# Altium footprint library Diode.PcbLib: 31 footprints (part 2 of 2)
Each footprint in its own frame and in the unit in brackets; x right, y up, seen from the top. Pads: shape width x height; smd on the part's side, far side on the other; paste and mask are expansions set on the pad; w line width, h text height; cw(c..) or ccw(c..) is an arc to the next point about the centre after c.
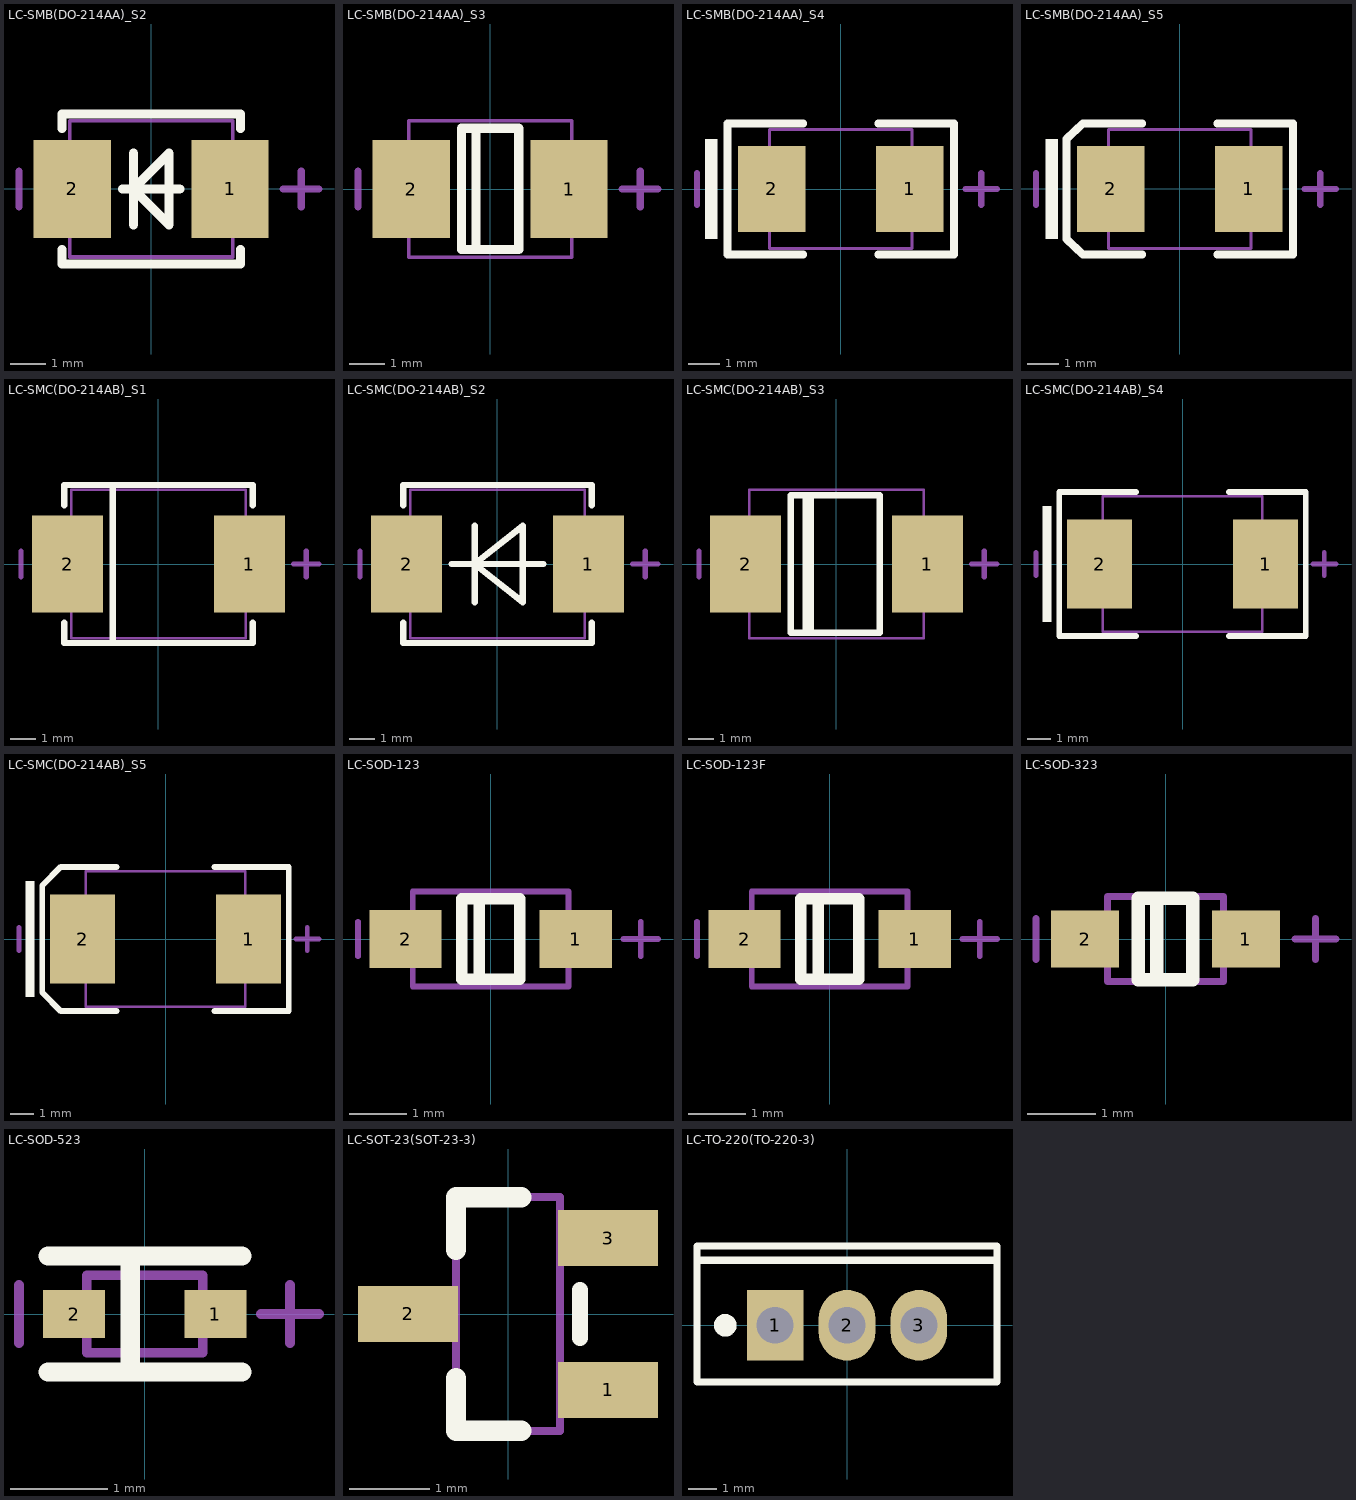
[diagram p1: the footprints below, top view; thin cyan lines are the x and y axes]

## LC-SMB(DO-214AA)_S2 [mm]
pads (2):
  rect 2.159x2.743 smd: 1(2.21,0) 2(-2.21,0)
Top Overlay:
  lines w0.254: -2.5,-1.7 -2.5,-2.1 2.5,-2.1 2.5,-1.7 ; -2.5,1.7 -2.5,2.1 2.5,2.1 2.5,1.7 ; -0.8,0 0.8,0 ; -0.5,-1 -0.5,1 ; -0.5,0 0.5,1 0.5,-1 -0.5,0
Mechanical 13:
  lines w0.1: -2.285,-1.905 2.285,-1.905 2.285,1.905 -2.285,1.905 -2.285,-1.905
Mechanical 15:
  lines w0.203: -3.7,-0.5 -3.7,0.5 ; 3.7,0 4.7,0 ; 4.2,-0.5 4.2,0.5

## LC-SMB(DO-214AA)_S3 [mm]
pads (2):
  rect 2.159x2.743 smd: 1(2.21,0) 2(-2.21,0)
Top Overlay:
  lines w0.254: -0.4,-1.7 -0.4,1.7 ; -0.8,-1.7 -0.8,1.7 0.8,1.7 0.8,-1.7 -0.8,-1.7
Mechanical 13:
  lines w0.1: -2.285,-1.905 -2.285,1.905 2.285,1.905 2.285,-1.905 -2.285,-1.905
Mechanical 15:
  lines w0.203: -3.7,-0.5 -3.7,0.5 ; 3.7,0 4.7,0 ; 4.2,-0.5 4.2,0.5

## LC-SMB(DO-214AA)_S4 [mm]
pads (2):
  rect 2.159x2.743 smd: 1(2.21,0) 2(-2.21,0)
Top Overlay:
  rectangle: -4.35,-1.6 -3.95,1.6
  lines w0.254: -1.2,-2.1 -3.625,-2.1 -3.625,2.1 -1.2,2.1 ; 1.2,-2.1 3.625,-2.1 3.625,2.1 1.2,2.1
Mechanical 13:
  lines w0.1: -2.285,-1.905 2.285,-1.905 2.285,1.905 -2.285,1.905 -2.285,-1.905
Mechanical 15:
  lines w0.203: -4.6,-0.5 -4.6,0.5 ; 4,0 5,0 ; 4.5,-0.5 4.5,0.5

## LC-SMB(DO-214AA)_S5 [mm]
pads (2):
  rect 2.159x2.743 smd: 1(2.21,0) 2(-2.21,0)
Top Overlay:
  rectangle: -4.296,-1.6 -3.896,1.6
  lines w0.254: -1.2,-2.1 -3.1,-2.1 -3.625,-1.6 -3.625,1.6 -3.1,2.1 -1.2,2.1 ; 1.2,-2.1 3.625,-2.1 3.625,2.1 1.2,2.1
Mechanical 13:
  lines w0.1: -2.285,-1.905 -2.285,1.905 2.285,1.905 2.285,-1.905 -2.285,-1.905
Mechanical 15:
  lines w0.203: -4.6,-0.5 -4.6,0.5 ; 4,0 5,0 ; 4.5,-0.5 4.5,0.5

## LC-SMC(DO-214AB)_S1 [mil]
pads (2):
  rect 110x150 smd: 1(140.49,0) 2(-140.49,0)
Top Overlay:
  lines w10: -145.67,-90.55 -145.67,-122.05 145.67,-122.05 145.67,-90.55 ; -145.67,90.55 -145.67,122.05 145.67,122.05 145.67,90.55 ; -70.87,-122.05 -70.87,122.05
Mechanical 13:
  lines w3.94: -135.04,-114.96 -135.04,114.96 135.04,114.96 135.04,-114.96 -135.04,-114.96
Mechanical 15:
  lines w8: -212.6,-19.68 -212.6,19.69 ; 208.66,0 248.03,0 ; 228.35,-19.68 228.35,19.69

## LC-SMC(DO-214AB)_S2 [mil]
pads (2):
  rect 110x150 smd: 1(140.49,0) 2(-140.49,0)
Top Overlay:
  lines w10: -145.67,-90.55 -145.67,-122.05 145.67,-122.05 145.67,-90.55 ; -145.67,90.55 -145.67,122.05 145.67,122.05 145.67,90.55 ; -70.87,0 70.87,0 ; -35.43,-59.05 -35.43,59.06 ; -35.43,0 39.37,-59.05 39.37,59.06 -35.43,0
Mechanical 13:
  lines w3.94: -135.04,-114.96 135.04,-114.96 135.04,114.96 -135.04,114.96 -135.04,-114.96
Mechanical 15:
  lines w8: -212.6,-19.68 -212.6,19.69 ; 208.66,0 248.03,0 ; 228.35,-19.68 228.35,19.69

## LC-SMC(DO-214AB)_S3 [mil]
pads (2):
  rect 110x150 smd: 1(140.49,0) 2(-140.49,0)
Top Overlay:
  lines w10: -47.24,-106.3 -47.24,106.3 ; -39.37,-106.3 -39.37,106.3 ; -70.87,-106.3 -70.87,106.3 66.93,106.3 66.93,-106.3 -70.87,-106.3
Mechanical 13:
  lines w3.94: -135.04,-114.96 135.04,-114.96 135.04,114.96 -135.04,114.96 -135.04,-114.96
Mechanical 15:
  lines w8: -212.6,-19.68 -212.6,19.69 ; 208.66,0 248.03,0 ; 228.35,-19.68 228.35,19.69

## LC-SMC(DO-214AB)_S4 [mil]
pads (2):
  rect 110x150 smd: 1(140.49,0) 2(-140.49,0)
Top Overlay:
  rectangle: -237.2,-98.43 -221.46,98.43
  lines w10: -78.74,-122.05 -208.66,-122.05 -208.66,122.05 -78.74,122.05 ; 78.74,-122.05 208.66,-122.05 208.66,122.05 78.74,122.05
Mechanical 13:
  lines w3.94: -135.04,-114.96 135.04,-114.96 135.04,114.96 -135.04,114.96 -135.04,-114.96
Mechanical 15:
  lines w8: -248.03,-19.68 -248.03,19.68 ; 220.47,0 259.84,0 ; 240.16,-19.68 240.16,19.68

## LC-SMC(DO-214AB)_S5 [mil]
pads (2):
  rect 110x150 smd: 1(140.49,0) 2(-140.49,0)
Top Overlay:
  rectangle: -237.2,-98.43 -221.46,98.43
  lines w10: -82.68,-122.05 -177.17,-122.05 -208.66,-90.55 -208.66,90.55 -177.17,122.05 -82.68,122.05 ; 82.68,-122.05 208.66,-122.05 208.66,122.05 82.68,122.05
Mechanical 13:
  lines w3.94: -135.04,-114.96 -135.04,114.96 135.04,114.96 135.04,-114.96 -135.04,-114.96
Mechanical 15:
  lines w8: -248.03,-19.68 -248.03,19.68 ; 220.47,0 259.84,0 ; 240.16,-19.68 240.16,19.68

## LC-SOD-123 [mm]
pads (2):
  rect 1.25x1 smd: 1(1.475,0) 2(-1.475,0)
Top Overlay:
  lines w0.2: -0.2,-0.7 -0.2,0.7 ; -0.5,-0.7 -0.5,0.7 0.5,0.7 0.5,-0.7 -0.5,-0.7
Mechanical 13:
  lines w0.1: -1.35,-0.825 1.35,-0.825 1.35,0.825 -1.35,0.825 -1.35,-0.825
Mechanical 15:
  lines w0.1: -2.3,-0.3 -2.3,0.3 ; 2.3,0 2.9,0 ; 2.6,-0.3 2.6,0.3
3D body "SOD123.STEP": height 1.35, standoff 0, extent -1.85,-0.775 1.85,0.775

## LC-SOD-123F [mm]
pads (2):
  rect 1.25x1 smd: 1(1.475,0) 2(-1.475,0)
Top Overlay:
  lines w0.2: -0.2,-0.7 -0.2,0.7 ; -0.5,-0.7 -0.5,0.7 0.5,0.7 0.5,-0.7 -0.5,-0.7
Mechanical 13:
  lines w0.1: -1.35,-0.825 1.35,-0.825 1.35,0.825 -1.35,0.825 -1.35,-0.825
Mechanical 15:
  lines w0.1: -2.3,-0.3 -2.3,0.3 ; 2.3,0 2.9,0 ; 2.6,-0.3 2.6,0.3
3D body "SOD123F.STEP": height 1.2, standoff -0.01, extent -1.9,-0.849 1.85,0.85

## LC-SOD-323 [mm]
pads (2):
  rect 1x0.83 smd: 1(1.18,0) 2(-1.18,0)
Top Overlay:
  lines w0.2: -0.13,-0.6 -0.13,0.6 ; -0.4,-0.6 0.4,-0.6 0.4,0.6 -0.4,0.6 -0.4,-0.6
Mechanical 13:
  lines w0.1: -0.85,-0.625 0.85,-0.625 0.85,0.625 -0.85,0.625 -0.85,-0.625
Mechanical 15:
  lines w0.1: -1.9,-0.3 -1.9,0.3 ; 1.9,0 2.5,0 ; 2.2,-0.3 2.2,0.3
3D body "SOD323.STEP": height 1.1, standoff 0, extent -1.35,-0.625 1.35,0.625

## LC-SOD-523 [mm]
pads (2):
  rect 0.64x0.5 smd: 1(0.73,0) 2(-0.73,0)
Top Overlay:
  lines w0.2: -1,-0.6 1,-0.6 ; -1,0.6 1,0.6 ; -0.15,-0.575 -0.15,0.6
Mechanical 13:
  lines w0.1: -0.6,-0.4 -0.6,0.4 0.6,0.4 0.6,-0.4 -0.6,-0.4
Mechanical 15:
  lines w0.1: -1.3,-0.3 -1.3,0.3 ; 1.2,0 1.8,0 ; 1.5,-0.3 1.5,0.3
3D body "SOD523.STEP": height 0.7, standoff 0, extent -0.8,-0.399 0.8,0.399

## LC-SOT-23(SOT-23-3) [mm]
pads (3):
  rect 1.25x0.7 smd: 1(1.25,-0.95) 2(-1.25,0) 3(1.25,0.95)
Top Overlay:
  lines w0.2: 0.9,-0.3 0.9,0.3
  lines w0.254: -0.65,-0.8 -0.65,-1.46 0.165,-1.46 ; 0.165,1.46 -0.65,1.46 ; -0.65,0.8 -0.65,1.46 ; -0.65,0.8 -0.65,1.46 ; -0.65,0.8 -0.65,1.46
Mechanical 13:
  lines w0.1: -0.65,-1.46 -0.65,1.46 ; -0.65,-1.46 0.65,-1.46 ; -0.65,-1.46 0.65,-1.46 ; -0.65,-1.46 -0.65,1.46 ; -0.65,-1.46 0.65,-1.46 ; -0.65,-1.46 -0.65,1.46 ; -0.65,1.46 0.65,1.46 ; -0.65,1.46 0.65,1.46 ; -0.65,1.46 0.65,1.46 ; 0.65,-1.46 0.65,1.46 ; 0.65,-1.46 0.65,1.46 ; 0.65,-1.46 0.65,1.46
3D body "SOT-23.step": height 1.3, standoff 0, extent -1.5,-1.5 1.5,1.5

## LC-TO-220(TO-220-3) [mm]
pads (3):
  rect 2x2.5 hole 1.3: 1(-2.54,0)
  oval 2x2.5 hole 1.3: 2(0,0) 3(2.54,0)
Top Overlay:
  circle w0.4: c-4.3,0 r0.2
  lines w0.254: -5.3,2.3 5.3,2.3 ; -5.3,-2 -5.3,2.8 5.3,2.8 5.3,-2 -5.3,-2
3D body "TO-220-3.STEP": height 19.6, standoff -8.87, extent -5.08,-1.451 5.08,2.9